# EAGLE library part 40X2TQFP (library LMA)
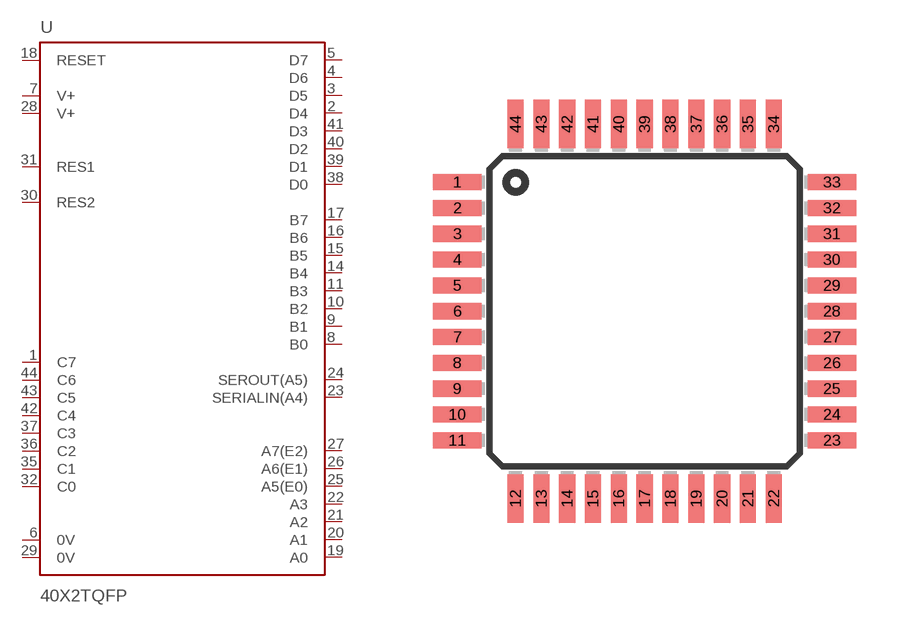
[diagram p1: symbol with the pads of TQFP40X2; footprint TQFP40X2]

Designator prefix -

## 40X2TQFP  [TQFP40X2]
1  C7
2  D4
3  D5
4  D6
5  D7
6  0V  pwr
7  V+  pwr
8  B0
9  B1
10  B2
11  B3
12  NC  nc
13  NC  nc
14  B4
15  B5
16  B6
17  B7
18  RESET  in
19  A0
20  A1
21  A2
22  A3
23  SERIALIN(A4)
24  SEROUT(A5)
25  A5(E0)
26  A6(E1)
27  A7(E2)
28  V+  pwr
29  0V  pwr
30  RES2  out
31  RES1  in
32  C0
33  NC  nc
34  NC  nc
35  C1
36  C2
37  C3
38  D0
39  D1
40  D2
41  D3
42  C4
43  C5
44  C6

## Footprint TQFP40X2 (pad centres in mm)
smd 1.5 x 0.5: 1 -5.8,4; 2 -5.8,3.2; 3 -5.8,2.4; 4 -5.8,1.6; 5 -5.8,0.8; 6 -5.8,0; 7 -5.8,-0.8; 8 -5.8,-1.6; 9 -5.8,-2.4; 10 -5.8,-3.2; 11 -5.8,-4; 23 5.8,-4; 24 5.8,-3.2; 25 5.8,-2.4; 26 5.8,-1.6; 27 5.8,-0.8; 28 5.8,0; 29 5.8,0.8; 30 5.8,1.6; 31 5.8,2.4; 32 5.8,3.2; 33 5.8,4
smd 0.5 x 1.5: 12 -4,-5.8; 13 -3.2,-5.8; 14 -2.4,-5.8; 15 -1.6,-5.8; 16 -0.8,-5.8; 17 0,-5.8; 18 0.8,-5.8; 19 1.6,-5.8; 20 2.4,-5.8; 21 3.2,-5.8; 22 4,-5.8; 34 4,5.8; 35 3.2,5.8; 36 2.4,5.8; 37 1.6,5.8; 38 0.8,5.8; 39 0,5.8; 40 -0.8,5.8; 41 -1.6,5.8; 42 -2.4,5.8; 43 -3.2,5.8; 44 -4,5.8